# Altium schematic symbol library ESD7104MUTAG.SchLib: 1 symbol
Pins are listed as number, name and electrical type; pins without a type are passive.

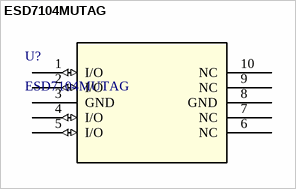
[diagram p0: symbol ESD7104MUTAG]

## ESD7104MUTAG
designator U?
Description; Manufacturer_Name: onsemi; Copyright: Copyright (C) 2025 Ultra Librarian. All rights reserved.; MPN: ESD7104MUTAG; RefDes: RefDes; Type: Type
footprint UDFN10_ONS
pins: 1 I/O (io), 2 I/O (io), 3 GND (power), 4 I/O (io), 5 I/O (io), 6 NC, 7 NC, 8 GND (power), 9 NC, 10 NC